# Altium footprint library SMD Resistors 0603.PcbLib: 67 footprints (part 2 of 5)
Each footprint in its own frame and in the unit in brackets; x right, y up, seen from the top. Pads: shape width x height; smd on the part's side, far side on the other; paste and mask are expansions set on the pad; w line width, h text height; cw(c..) or ccw(c..) is an arc to the next point about the centre after c.
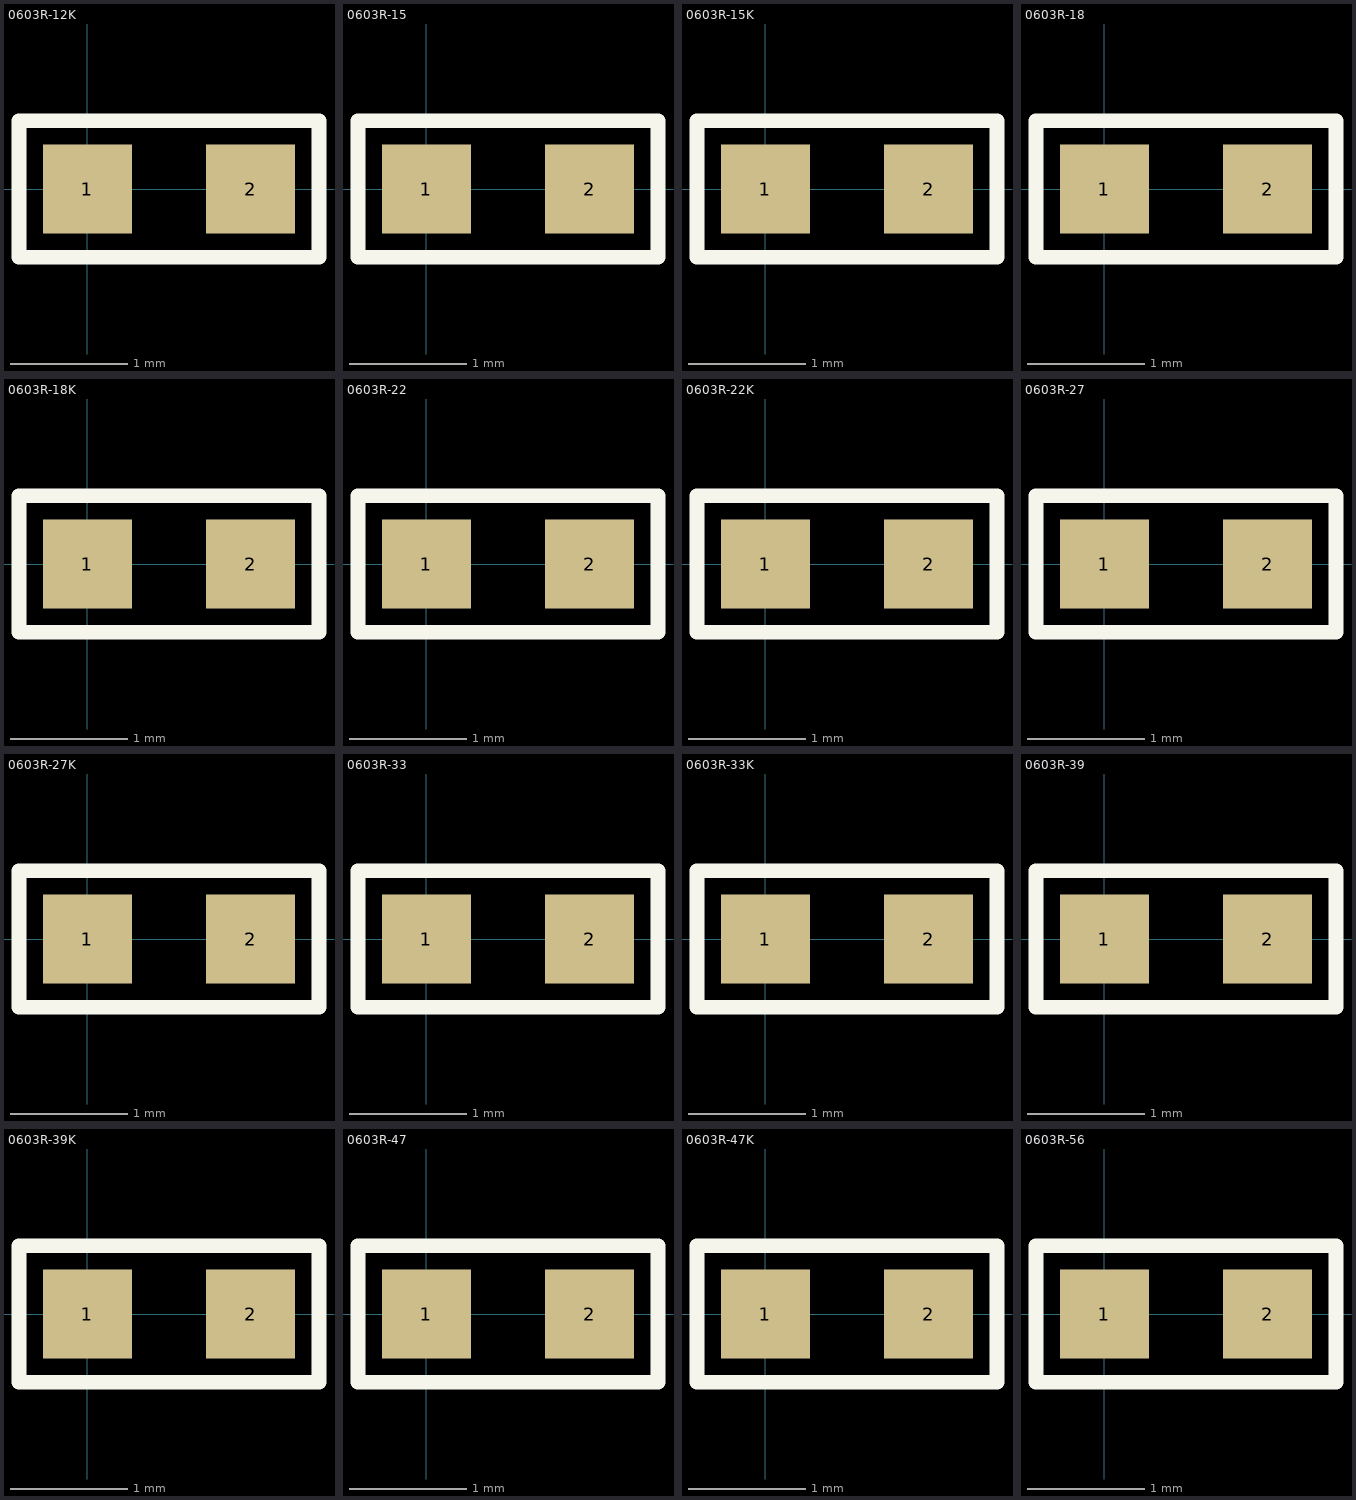
[diagram p1: the footprints below, top view; thin cyan lines are the x and y axes]

## 0603R-12K [mil] "RESISTOR 0603"
pads (2):
  rect 30x30 smd: 1(0,0) 2(55,0)
Top Overlay:
  lines w5: -23,-23 78,-23 78,23 -23,23 -23,-23
3D body: height 20, standoff 19, extent 32.5,-5 37.5,5
3D body: height 20, standoff 19, extent 17.5,-5 22.5,5
3D body: height 19, standoff 0, extent -4,-15 5,15
3D body: height 19, standoff 0, extent 50,-15 59,15
3D body: height 19, standoff 18, extent 5,-13 50,13
3D body: height 18, standoff 0, extent -3,-14 58,14
3D body: height 20, standoff 19, extent 25,-5 30,5

## 0603R-15 [mil] "RESISTOR 0603"
pads (2):
  rect 30x30 smd: 1(0,0) 2(55,0)
Top Overlay:
  lines w5: -23,-23 78,-23 78,23 -23,23 -23,-23
3D body: height 20, standoff 19, extent 25,-5 30,5
3D body: height 20, standoff 19, extent 17.5,-5 22.5,5
3D body: height 19, standoff 0, extent -4,-15 5,15
3D body: height 19, standoff 0, extent 50,-15 59,15
3D body: height 19, standoff 18, extent 5,-13 50,13
3D body: height 18, standoff 0, extent -3,-14 58,14
3D body: height 20, standoff 19, extent 32.5,-5 37.5,5

## 0603R-15K [mil] "RESISTOR 0603"
pads (2):
  rect 30x30 smd: 1(0,0) 2(55,0)
Top Overlay:
  lines w5: -23,-23 78,-23 78,23 -23,23 -23,-23
3D body: height 20, standoff 19, extent 32.5,-5 37.5,5
3D body: height 20, standoff 19, extent 25,-5 30,5
3D body: height 20, standoff 19, extent 17.5,-5 22.5,5
3D body: height 19, standoff 0, extent -4,-15 5,15
3D body: height 19, standoff 0, extent 50,-15 59,15
3D body: height 19, standoff 18, extent 5,-13 50,13
3D body: height 18, standoff 0, extent -3,-14 58,14

## 0603R-18 [mil] "RESISTOR 0603"
pads (2):
  rect 30x30 smd: 1(0,0) 2(55,0)
Top Overlay:
  lines w5: -23,-23 -23,23 78,23 78,-23 -23,-23
3D body: height 20, standoff 19, extent 17.5,-5 22.5,5
3D body: height 18, standoff 0, extent -3,-14 58,14
3D body: height 19, standoff 18, extent 5,-13 50,13
3D body: height 19, standoff 0, extent 50,-15 59,15
3D body: height 19, standoff 0, extent -4,-15 5,15
3D body: height 20, standoff 19, extent 25,-5 30,5
3D body: height 20, standoff 19, extent 32.5,-5 37.5,5

## 0603R-18K [mil] "RESISTOR 0603"
pads (2):
  rect 30x30 smd: 1(0,0) 2(55,0)
Top Overlay:
  lines w5: -23,-23 78,-23 78,23 -23,23 -23,-23
3D body: height 20, standoff 19, extent 32.5,-5 37.5,5
3D body: height 20, standoff 19, extent 25,-5 30,5
3D body: height 19, standoff 0, extent -4,-15 5,15
3D body: height 19, standoff 0, extent 50,-15 59,15
3D body: height 19, standoff 18, extent 5,-13 50,13
3D body: height 18, standoff 0, extent -3,-14 58,14
3D body: height 20, standoff 19, extent 17.5,-5 22.5,5

## 0603R-22 [mil] "RESISTOR 0603"
pads (2):
  rect 30x30 smd: 1(0,0) 2(55,0)
Top Overlay:
  lines w5: -23,-23 -23,23 78,23 78,-23 -23,-23
3D body: height 20, standoff 19, extent 17.5,-5 22.5,5
3D body: height 20, standoff 19, extent 25,-5 30,5
3D body: height 18, standoff 0, extent -3,-14 58,14
3D body: height 19, standoff 18, extent 5,-13 50,13
3D body: height 19, standoff 0, extent 50,-15 59,15
3D body: height 19, standoff 0, extent -4,-15 5,15
3D body: height 20, standoff 19, extent 32.5,-5 37.5,5

## 0603R-22K [mil] "RESISTOR 0603"
pads (2):
  rect 30x30 smd: 1(0,0) 2(55,0)
Top Overlay:
  lines w5: -23,-23 -23,23 78,23 78,-23 -23,-23
3D body: height 20, standoff 19, extent 32.5,-5 37.5,5
3D body: height 20, standoff 19, extent 17.5,-5 22.5,5
3D body: height 20, standoff 19, extent 25,-5 30,5
3D body: height 18, standoff 0, extent -3,-14 58,14
3D body: height 19, standoff 18, extent 5,-13 50,13
3D body: height 19, standoff 0, extent 50,-15 59,15
3D body: height 19, standoff 0, extent -4,-15 5,15

## 0603R-27 [mil] "RESISTOR 0603"
pads (2):
  rect 30x30 smd: 1(0,0) 2(55,0)
Top Overlay:
  lines w5: -23,-23 78,-23 78,23 -23,23 -23,-23
3D body: height 20, standoff 19, extent 17.5,-5 22.5,5
3D body: height 20, standoff 19, extent 25,-5 30,5
3D body: height 19, standoff 0, extent -4,-15 5,15
3D body: height 19, standoff 0, extent 50,-15 59,15
3D body: height 19, standoff 18, extent 5,-13 50,13
3D body: height 18, standoff 0, extent -3,-14 58,14
3D body: height 20, standoff 19, extent 32.5,-5 37.5,5

## 0603R-27K [mil] "RESISTOR 0603"
pads (2):
  rect 30x30 smd: 1(0,0) 2(55,0)
Top Overlay:
  lines w5: -23,-23 78,-23 78,23 -23,23 -23,-23
3D body: height 20, standoff 19, extent 32.5,-5 37.5,5
3D body: height 20, standoff 19, extent 17.5,-5 22.5,5
3D body: height 20, standoff 19, extent 25,-5 30,5
3D body: height 19, standoff 0, extent -4,-15 5,15
3D body: height 19, standoff 0, extent 50,-15 59,15
3D body: height 19, standoff 18, extent 5,-13 50,13
3D body: height 18, standoff 0, extent -3,-14 58,14

## 0603R-33 [mil] "RESISTOR 0603"
pads (2):
  rect 30x30 smd: 1(0,0) 2(55,0)
Top Overlay:
  lines w5: -23,-23 78,-23 78,23 -23,23 -23,-23
3D body: height 20, standoff 19, extent 25,-5 30,5
3D body: height 19, standoff 0, extent -4,-15 5,15
3D body: height 19, standoff 0, extent 50,-15 59,15
3D body: height 19, standoff 18, extent 5,-13 50,13
3D body: height 18, standoff 0, extent -3,-14 58,14
3D body: height 20, standoff 19, extent 17.5,-5 22.5,5
3D body: height 20, standoff 19, extent 32.5,-5 37.5,5

## 0603R-33K [mil] "RESISTOR 0603"
pads (2):
  rect 30x30 smd: 1(0,0) 2(55,0)
Top Overlay:
  lines w5: -23,-23 -23,23 78,23 78,-23 -23,-23
3D body: height 20, standoff 19, extent 17.5,-5 22.5,5
3D body: height 18, standoff 0, extent -3,-14 58,14
3D body: height 19, standoff 18, extent 5,-13 50,13
3D body: height 19, standoff 0, extent 50,-15 59,15
3D body: height 19, standoff 0, extent -4,-15 5,15
3D body: height 20, standoff 19, extent 25,-5 30,5
3D body: height 20, standoff 19, extent 32.5,-5 37.5,5

## 0603R-39 [mil] "RESISTOR 0603"
pads (2):
  rect 30x30 smd: 1(0,0) 2(55,0)
Top Overlay:
  lines w5: -23,-23 -23,23 78,23 78,-23 -23,-23
3D body: height 20, standoff 19, extent 32.5,-5 37.5,5
3D body: height 20, standoff 19, extent 25,-5 30,5
3D body: height 18, standoff 0, extent -3,-14 58,14
3D body: height 19, standoff 18, extent 5,-13 50,13
3D body: height 19, standoff 0, extent 50,-15 59,15
3D body: height 19, standoff 0, extent -4,-15 5,15
3D body: height 20, standoff 19, extent 17.5,-5 22.5,5

## 0603R-39K [mil] "RESISTOR 0603"
pads (2):
  rect 30x30 smd: 1(0,0) 2(55,0)
Top Overlay:
  lines w5: -23,-23 -23,23 78,23 78,-23 -23,-23
3D body: height 20, standoff 19, extent 25,-5 30,5
3D body: height 18, standoff 0, extent -3,-14 58,14
3D body: height 19, standoff 18, extent 5,-13 50,13
3D body: height 19, standoff 0, extent 50,-15 59,15
3D body: height 19, standoff 0, extent -4,-15 5,15
3D body: height 20, standoff 19, extent 17.5,-5 22.5,5
3D body: height 20, standoff 19, extent 32.5,-5 37.5,5

## 0603R-47 [mil] "RESISTOR 0603"
pads (2):
  rect 30x30 smd: 1(0,0) 2(55,0)
Top Overlay:
  lines w5: -23,-23 -23,23 78,23 78,-23 -23,-23
3D body: height 20, standoff 19, extent 32.5,-5 37.5,5
3D body: height 18, standoff 0, extent -3,-14 58,14
3D body: height 19, standoff 18, extent 5,-13 50,13
3D body: height 19, standoff 0, extent 50,-15 59,15
3D body: height 19, standoff 0, extent -4,-15 5,15
3D body: height 20, standoff 19, extent 17.5,-5 22.5,5
3D body: height 20, standoff 19, extent 25,-5 30,5

## 0603R-47K [mil] "RESISTOR 0603"
pads (2):
  rect 30x30 smd: 1(0,0) 2(55,0)
Top Overlay:
  lines w5: -23,-23 -23,23 78,23 78,-23 -23,-23
3D body: height 18, standoff 0, extent -3,-14 58,14
3D body: height 19, standoff 18, extent 5,-13 50,13
3D body: height 19, standoff 0, extent 50,-15 59,15
3D body: height 19, standoff 0, extent -4,-15 5,15
3D body: height 20, standoff 19, extent 17.5,-5 22.5,5
3D body: height 20, standoff 19, extent 25,-5 30,5
3D body: height 20, standoff 19, extent 32.5,-5 37.5,5

## 0603R-56 [mil] "RESISTOR 0603"
pads (2):
  rect 30x30 smd: 1(0,0) 2(55,0)
Top Overlay:
  lines w5: -23,-23 -23,23 78,23 78,-23 -23,-23
3D body: height 20, standoff 19, extent 32.5,-5 37.5,5
3D body: height 18, standoff 0, extent -3,-14 58,14
3D body: height 19, standoff 18, extent 5,-13 50,13
3D body: height 19, standoff 0, extent 50,-15 59,15
3D body: height 19, standoff 0, extent -4,-15 5,15
3D body: height 20, standoff 19, extent 17.5,-5 22.5,5
3D body: height 20, standoff 19, extent 25,-5 30,5